# Altium footprint library R8 Bran.PcbLib: 57 footprints (part 1 of 4)
Each footprint in its own frame and in the unit in brackets; x right, y up, seen from the top. Pads: shape width x height; smd on the part's side, far side on the other; paste and mask are expansions set on the pad; w line width, h text height; cw(c..) or ccw(c..) is an arc to the next point about the centre after c.
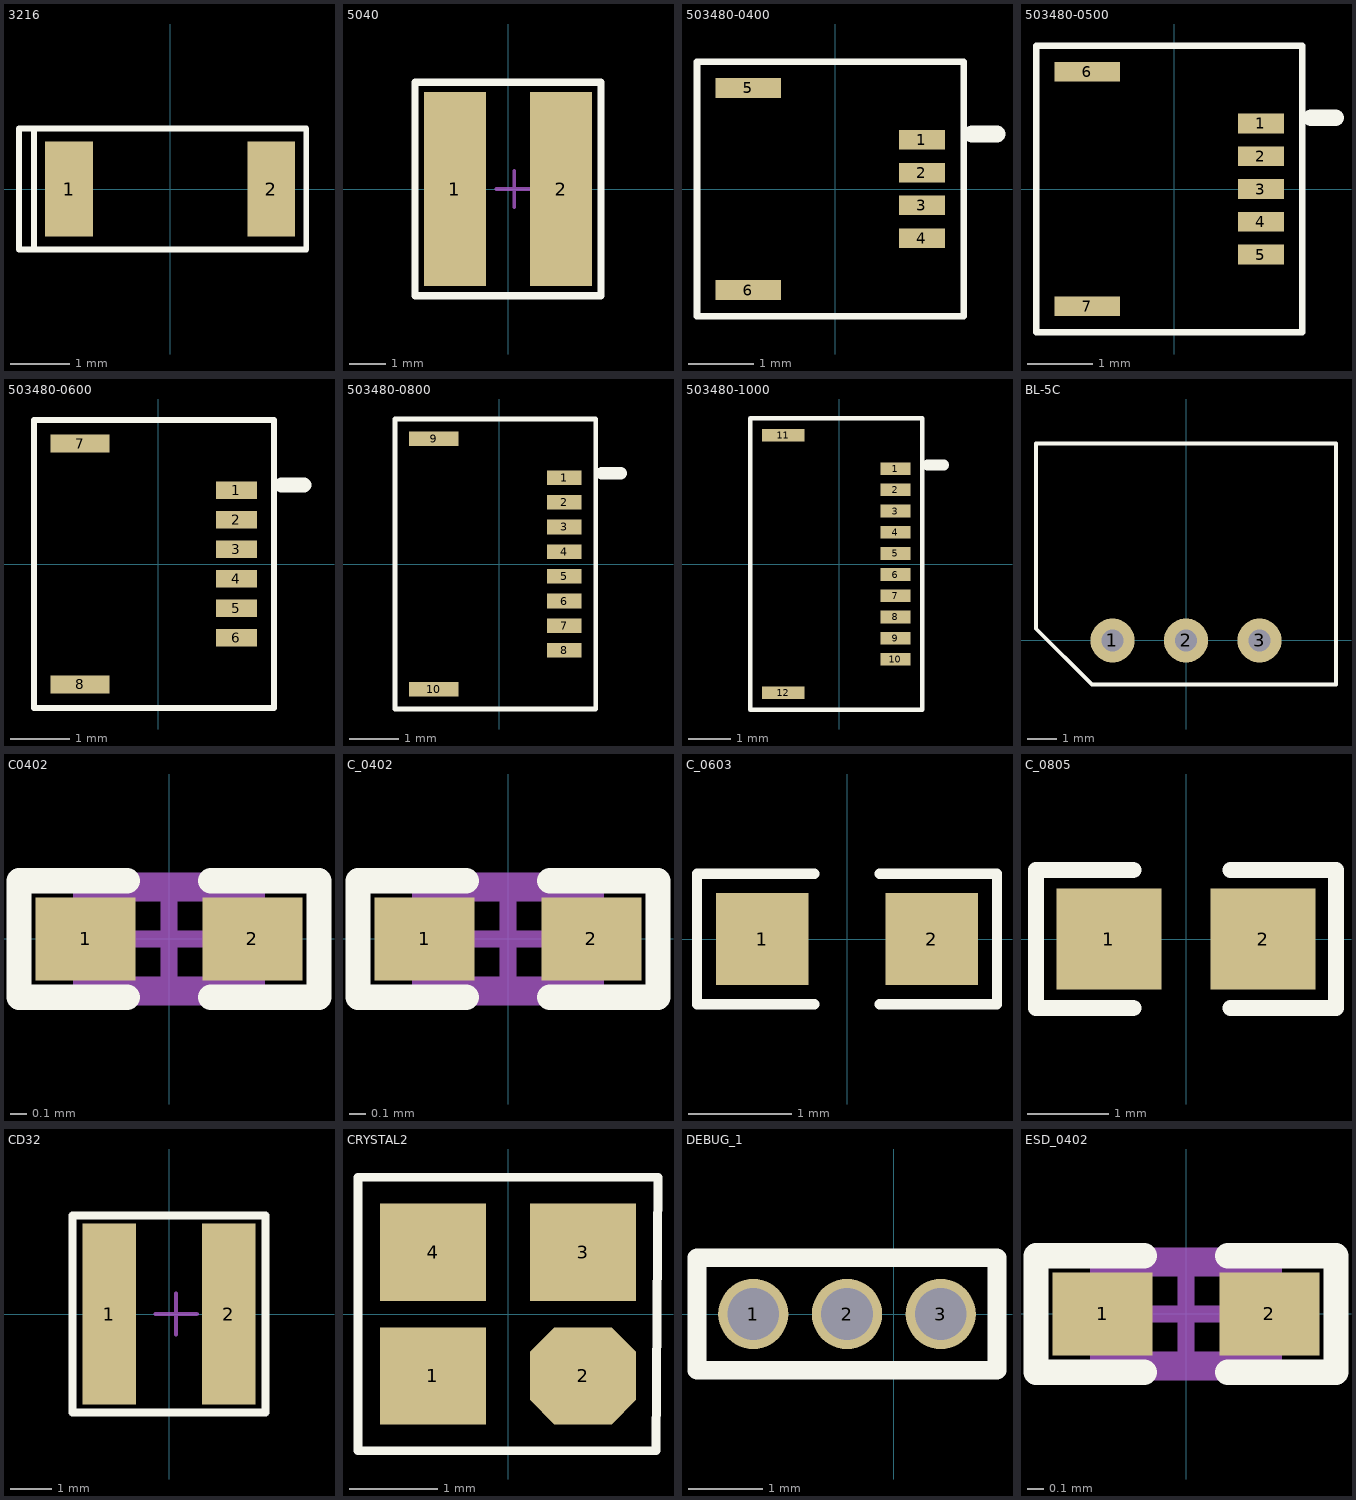
[diagram p0: the footprints below, top view; thin cyan lines are the x and y axes]

## 3216 [mm]
pads (2):
  rect 0.8x1.6 smd: 1(-1.7,0) 2(1.7,0)
Top Overlay:
  lines w0.1: -2.286,-1.016 -2.286,1.016 ; -2.54,-1.016 -2.54,1.016 2.286,1.016 2.286,-1.016 -2.54,-1.016
3D body: height 1.8, standoff 0, extent -1.718,-0.852 1.718,0.852

## 5040 [mm] "Molded Inductor, 2-Leads, Body 4.90x4.90mm, IPC Medium Density"
height 1.9
pads (2):
  rect 1.7x5.3 smd: 1(-1.45,0) 2(1.45,0)
Top Overlay:
  lines w0.2: -2.54,-2.921 -2.54,2.921 2.54,2.921 2.54,-2.921 -2.54,-2.921
Mechanical 13:
  lines w0.1: -1.925,-2.1 -1.925,2.1
Mechanical 15:
  lines w0.1: -0.325,0 0.675,0 ; 0.175,-0.5 0.175,0.5
3D body: height 4.1, standoff 0, extent -2.402,-2.752 2.402,2.752

## 503480-0400 [mm]
pads (6):
  rect 0.7x0.3 smd: 1(1.325,0.75) 2(1.325,0.25) 3(1.325,-0.25) 4(1.325,-0.75)
  rect 1x0.3 smd: 5(-1.325,1.54) 6(-1.325,-1.54)
Top Overlay:
  lines w0.1: -2.104,-1.937 -2.104,1.937 1.96,1.937 1.96,-1.937 -2.104,-1.937
  lines w0.254: 2.087,0.838 2.468,0.838

## 503480-0500 [mm]
pads (7):
  rect 0.7x0.3 smd: 1(1.325,1) 2(1.325,0.5) 3(1.325,0) 4(1.325,-0.5) 5(1.325,-1)
  rect 1x0.3 smd: 6(-1.325,1.79) 7(-1.325,-1.79)
Top Overlay:
  lines w0.1: -2.104,-2.187 1.96,-2.187 1.96,2.187 -2.104,2.187 -2.104,-2.187
  lines w0.254: 2.087,1.088 2.468,1.088

## 503480-0600 [mm]
pads (8):
  rect 0.7x0.3 smd: 1(1.325,1.25) 2(1.325,0.75) 3(1.325,0.25) 4(1.325,-0.25) 5(1.325,-0.75) 6(1.325,-1.25)
  rect 1x0.3 smd: 7(-1.325,2.04) 8(-1.325,-2.04)
Top Overlay:
  lines w0.1: -2.104,-2.437 -2.104,2.437 1.96,2.437 1.96,-2.437 -2.104,-2.437
  lines w0.254: 2.087,1.338 2.468,1.338

## 503480-0800 [mm]
pads (10):
  rect 0.7x0.3 smd: 1(1.325,1.75) 2(1.325,1.25) 3(1.325,0.75) 4(1.325,0.25) 5(1.325,-0.25) 6(1.325,-0.75) 7(1.325,-1.25) 8(1.325,-1.75)
  rect 1x0.3 smd: 9(-1.325,2.54) 10(-1.325,-2.54)
Top Overlay:
  lines w0.1: -2.104,-2.937 -2.104,2.937 1.96,2.937 1.96,-2.937 -2.104,-2.937
  lines w0.254: 2.087,1.838 2.468,1.838

## 503480-1000 [mm]
pads (12):
  rect 0.7x0.3 smd: 1(1.325,2.25) 2(1.325,1.75) 3(1.325,1.25) 4(1.325,0.75) 5(1.325,0.25) 6(1.325,-0.25) 7(1.325,-0.75) 8(1.325,-1.25) 9(1.325,-1.75) 10(1.325,-2.25)
  rect 1x0.3 smd: 11(-1.325,3.04) 12(-1.325,-3.04)
Top Overlay:
  lines w0.1: -2.104,-3.437 -2.104,3.437 1.96,3.437 1.96,-3.437 -2.104,-3.437
  lines w0.254: 2.087,2.338 2.468,2.338

## BL-5C [mm]
pads (3):
  round 1.5 hole 0.74: 1(-2.5,0) 2(0,0) 3(2.5,0)
Top Overlay:
  lines w0.127: -5.1,0.401 -3.199,-1.5 5.1,-1.5 5.1,6.7 -5.1,6.7 -5.1,0.401

## C0402 [mm]
pads (2):
  rect 0.6x0.5 smd: 1(-0.5,0) 2(0.5,0)
Top Overlay:
  lines w0.152: -0.25,-0.35 -0.9,-0.35 -0.9,0.35 -0.25,0.35 ; 0.25,-0.35 0.9,-0.35 0.9,0.35 0.25,0.35
Mechanical 13:
  lines w0.1: -0.525,-0.275 0.525,-0.275 0.525,0.275 -0.525,0.275 -0.525,-0.275
Mechanical 15:
  lines w0.1: -0.275,0 0.275,0 ; 0,-0.275 0,0.275 ; -0.9,-0.35 -0.9,0.35 0.9,0.35 0.9,-0.35 -0.9,-0.35
3D body: height 0.5, standoff -0.01, extent -0.508,-0.254 0.508,0.254

## C_0402 [mm]
pads (2):
  rect 0.6x0.5 smd: 1(-0.5,0) 2(0.5,0)
Top Overlay:
  lines w0.152: -0.25,-0.35 -0.9,-0.35 -0.9,0.35 -0.25,0.35 ; 0.25,-0.35 0.9,-0.35 0.9,0.35 0.25,0.35
Mechanical 13:
  lines w0.1: -0.525,-0.275 -0.525,0.275 0.525,0.275 0.525,-0.275 -0.525,-0.275
Mechanical 15:
  lines w0.1: -0.275,0 0.275,0 ; 0,-0.275 0,0.275 ; -0.9,-0.35 0.9,-0.35 0.9,0.35 -0.9,0.35 -0.9,-0.35
3D body: height 0.5, standoff -0.01, extent -0.508,-0.254 0.508,0.254

## C_0603 [mm]
pads (2):
  rect 0.9x0.9 smd: 1(-0.826,0) 2(0.826,0)
Top Overlay:
  lines w0.102: -0.318,-0.635 -1.46,-0.635 -1.46,0.635 -0.318,0.635 ; 0.318,-0.635 1.46,-0.635 1.46,0.635 0.318,0.635
3D body: height 0.9, standoff 0, extent -1.377,-0.552 1.377,0.552

## C_0805 [mm]
pads (2):
  rect 1.3x1.25 smd: 1(-0.95,0) 2(0.95,0)
Top Overlay:
  lines w0.2: -0.65,-0.85 -1.85,-0.85 -1.85,0.85 -0.65,0.85 ; 0.55,-0.85 1.85,-0.85 1.85,0.85 0.55,0.85
3D body: height 0.6, standoff 0, extent -1.702,-0.727 1.702,0.727

## CD32 [mm]
pads (2):
  rect 1.3x4.4 smd: 1(-1.45,0) 2(1.45,0)
Top Overlay:
  lines w0.2: -2.35,-2.4 -2.35,2.4 2.35,2.4 2.35,-2.4 -2.35,-2.4
Mechanical 13:
  lines w0.1: -1.925,-2.1 -1.925,2.1
Mechanical 15:
  lines w0.1: -0.325,0 0.675,0 ; 0.175,-0.5 0.175,0.5
3D body: height 1.8, standoff 0, extent -1.925,-2.1 2.275,2.1

## CRYSTAL2 [mm]
pads (4):
  rect 1.2x1.1 smd: 1(-0.85,-0.7) 3(0.85,0.7) 4(-0.85,0.7)
  oct 1.2x1.1 smd: 2(0.85,-0.7)
Top Overlay:
  lines w0.1: -1.7,-1.549 -1.7,1.55 1.7,1.55 1.676,-1.549 -1.7,-1.549

## DEBUG_1 [mm]
pads (3):
  round 0.95 hole 0.7: 1(-1.905,0) 2(-0.635,0) 3(0.635,0)
Top Overlay:
  lines w0.254: -2.667,-0.762 1.397,-0.762 1.397,0.762 -2.667,0.762 -2.667,-0.762

## ESD_0402 [mm]
pads (2):
  rect 0.6x0.5 smd: 1(-0.5,0) 2(0.5,0)
Top Overlay:
  lines w0.152: -0.25,-0.35 -0.9,-0.35 -0.9,0.35 -0.25,0.35 ; 0.25,-0.35 0.9,-0.35 0.9,0.35 0.25,0.35
Mechanical 13:
  lines w0.1: -0.525,-0.275 0.525,-0.275 0.525,0.275 -0.525,0.275 -0.525,-0.275
Mechanical 15:
  lines w0.1: -0.275,0 0.275,0 ; 0,-0.275 0,0.275 ; -0.9,-0.35 -0.9,0.35 0.9,0.35 0.9,-0.35 -0.9,-0.35
3D body: height 0.5, standoff -0.01, extent -0.508,-0.254 0.508,0.254